# EAGLE library part CON15P1R (library ads4)
15-pin single row header
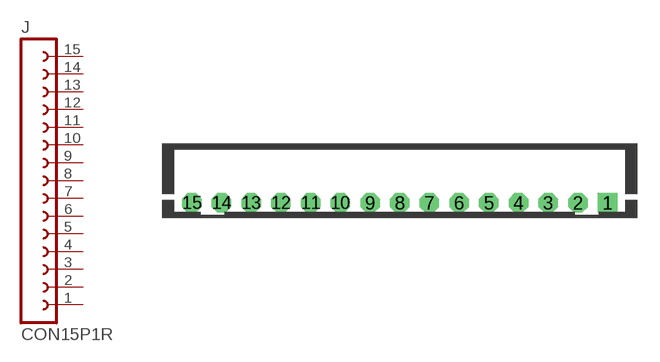
[diagram p33: symbol with the pads of DF3-15P1R; footprint DF3-15P1R]

Designator prefix J

## CON15P1RDF3  [DF3-15P1R]
1  1  pas
2  2  pas
3  3  pas
4  4  pas
5  5  pas
6  6  pas
7  7  pas
8  8  pas
9  9  pas
10  10  pas
11  11  pas
12  12  pas
13  13  pas
14  14  pas
15  15  pas

## Footprint DF3-15P1R (pad centres in mm)
Hirose DF3 2mm 15-pin single row connector
drill 0.8 square: 1 14,2
drill 0.8 octagon: 2 12,2; 3 10,2; 4 8,2; 5 6,2; 6 4,2; 7 2,2; 8 0,2; 9 -2,2; 10 -4,2; 11 -6,2; 12 -8,2; 13 -10,2; 14 -12,2; 15 -14,2